# Altium schematic symbol library HW_ADHERENT_SYSCTRL_R1_L3.SchLib: 1629 symbols (part 28 of 31)
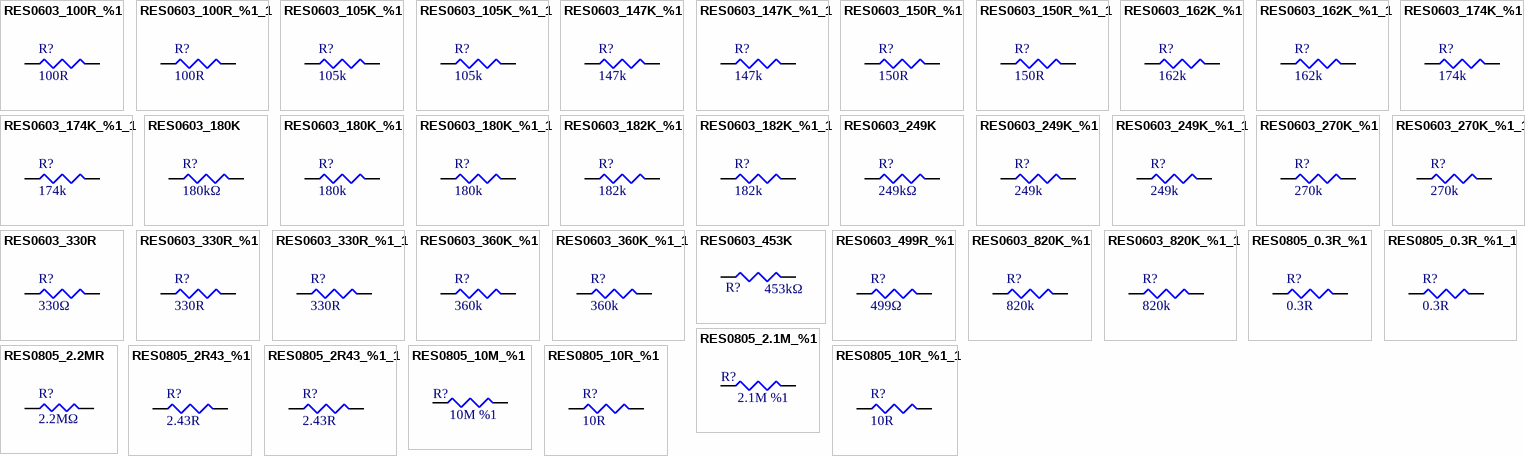
[diagram p78: symbols RES0603_100R_%1 to RES0805_10R_%1_1]

## RES0603_100R_%1
designator R?, comment value 100R  (hidden comment: RES 100 OHM 1% 1/10W 0603)
100 Ohms ±1% 0.1W, 1/10W Chip Resistor 0603 (1608 Metric) Moisture Resistant Thick Film; Manufacturer Part Number: RC0603FR-07100RL; Order Code: Digi: 311-100HRTR-ND; Sirius Stock Code: *; LCSC Part Number: C105588; LCSC Manufacturer Part Number: RC0603FR-07100RL
footprint SMR0603
pins: 1, 2

## RES0603_100R_%1_1
designator R?, comment value 100R  (hidden comment: RES 100 OHM 1% 1/10W 0603)
100 Ohms ±1% 0.1W, 1/10W Chip Resistor 0603 (1608 Metric) Moisture Resistant Thick Film; Manufacturer Part Number: RC0603FR-07100RL; Order Code: Digi: 311-100HRTR-ND; Sirius Stock Code: *; LCSC Part Number: C105588; LCSC Manufacturer Part Number: RC0603FR-07100RL
footprint SMR0603
pins: 1, 2

## RES0603_105K_%1
designator R?, comment value 105k  (hidden comment: RES 105K OHM 1% 1/10W 0603)
100mW Thick Film Resistors ±1% 105kΩ 0603 Chip Resistor - Surface Mount ROHS; Manufacturer Part Number: FRC0603F1053TS; Order Code: LCSC: C2933128; Sirius Stock Code: *; LCSC Part Number: C2933128; LCSC Manufacturer Part Number: FRC0603F1053TS
footprint SMR0603
pins: 1, 2

## RES0603_105K_%1_1
designator R?, comment value 105k  (hidden comment: RES 105K OHM 1% 1/10W 0603)
100mW Thick Film Resistors ±1% 105kΩ 0603 Chip Resistor - Surface Mount ROHS; Manufacturer Part Number: FRC0603F1053TS; Order Code: LCSC: C2933128; Sirius Stock Code: *; LCSC Part Number: C2933128; LCSC Manufacturer Part Number: FRC0603F1053TS
footprint SMR0603
pins: 1, 2

## RES0603_147K_%1
designator R?, comment value 147k  (hidden comment: RES 147K OHM 1% 1/10W 0603)
147kΩ 100mW Thick Film Resistors ±1% 0603 Chip Resistor - Surface Mount ROHS; Manufacturer Part Number: FRC0603F1473TS; Order Code: LCSC: C2998060; Sirius Stock Code: *; LCSC Part Number: C2998060; LCSC Manufacturer Part Number: FRC0603F1473TS
footprint SMR0603
pins: 1, 2

## RES0603_147K_%1_1
designator R?, comment value 147k  (hidden comment: RES 147K OHM 1% 1/10W 0603)
147kΩ 100mW Thick Film Resistors ±1% 0603 Chip Resistor - Surface Mount ROHS; Manufacturer Part Number: FRC0603F1473TS; Order Code: LCSC: C2998060; Sirius Stock Code: *; LCSC Part Number: C2998060; LCSC Manufacturer Part Number: FRC0603F1473TS
footprint SMR0603
pins: 1, 2

## RES0603_150R_%1
designator R?, comment value 150R  (hidden comment: RES 150 OHM 1% 1/10W 0603)
150 Ohms ±1% 0.1W, 1/10W Chip Resistor 0603 (1608 Metric) Moisture Resistant Thick Film; Manufacturer Part Number: RC0603FR-07150RL; Order Code: Digi: 311-150HRTR-ND; Sirius Stock Code: *; LCSC Part Number: C114608; LCSC Manufacturer Part Number: RC0603FR-07150RL
footprint SMR0603
pins: 1, 2

## RES0603_150R_%1_1
designator R?, comment value 150R  (hidden comment: RES 150 OHM 1% 1/10W 0603)
150 Ohms ±1% 0.1W, 1/10W Chip Resistor 0603 (1608 Metric) Moisture Resistant Thick Film; Manufacturer Part Number: RC0603FR-07150RL; Order Code: Digi: 311-150HRTR-ND; Sirius Stock Code: *; LCSC Part Number: C114608; LCSC Manufacturer Part Number: RC0603FR-07150RL
footprint SMR0603
pins: 1, 2

## RES0603_162K_%1
designator R?, comment value 162k  (hidden comment: RES 820K OHM 1% 1/10W 0603)
820 kOhms ±1% 0.1W, 1/10W Chip Resistor 0603 (1608 Metric) Moisture Resistant Thick Film; Manufacturer Part Number: FRC0603F1623TS; Order Code: LCSC: C2998114; Sirius Stock Code: *; LCSC Part Number: C2998114; LCSC Manufacturer Part Number: FRC0603F1623TS
footprint SMR0603
pins: 1, 2

## RES0603_162K_%1_1
designator R?, comment value 162k  (hidden comment: RES 820K OHM 1% 1/10W 0603)
820 kOhms ±1% 0.1W, 1/10W Chip Resistor 0603 (1608 Metric) Moisture Resistant Thick Film; Manufacturer Part Number: FRC0603F1623TS; Order Code: LCSC: C2998114; Sirius Stock Code: *; LCSC Part Number: C2998114; LCSC Manufacturer Part Number: FRC0603F1623TS
footprint SMR0603
pins: 1, 2

## RES0603_174K_%1
designator R?, comment value 174k  (hidden comment: RES 174K OHM 1% 1/10W 0603)
100mW Thick Film Resistors ±1% 174kΩ 0603 Chip Resistor - Surface Mount ROHS; Manufacturer Part Number: FRC0603F1743TS; Order Code: LCSC: C2933159; Sirius Stock Code: *; LCSC Part Number: C2933159; LCSC Manufacturer Part Number: FRC0603F1743TS
footprint SMR0603
pins: 1, 2

## RES0603_174K_%1_1
designator R?, comment value 174k  (hidden comment: RES 174K OHM 1% 1/10W 0603)
100mW Thick Film Resistors ±1% 174kΩ 0603 Chip Resistor - Surface Mount ROHS; Manufacturer Part Number: FRC0603F1743TS; Order Code: LCSC: C2933159; Sirius Stock Code: *; LCSC Part Number: C2933159; LCSC Manufacturer Part Number: FRC0603F1743TS
footprint SMR0603
pins: 1, 2

## RES0603_180K
designator R?, comment 180kΩ
180 kOhms ±1% 0.1W, 1/10W Chip Resistor 0603 (1608 Metric) Automotive AEC-Q200 Thick Film; Manufacturer Part Number: RMCF0603FT180K; Part Number: RC0603JR-0710KL; Manufacturer: YAGEO; Tolerance: ±5%; Category 7542B8484461Ae85: Passive Components; Category 5A00970A6D5C81C7: Uncategorized; Category 5C6A91606D4187Ad: Resistors; Category Cd01000Bfc2916C6: Single Components; Symbol 0 0: Standard; Num Pins: 2; Resistance: 330Ω; Value: 180kΩ; helpURL: https://upverter.com/upn/revision/974350d35a6c8a23/; ComponentLink2Description: Datasheet; Temperature: -55°C to +155°C; Package: 0603 (1608 metric); Supplier 2: Mouser; Price: 0.00379592162232; Supplier 1: Digi-Key; ComponentLink1URL: https://upverter.com/upn/revision/974350d35a6c8a23/; Supplier Part Number 1: 311-10KGRCT-ND; ComponentLink1Description: Upverter; ComponentLink2URL: http://www.yageo.com/documents/recent/PYu-RC_Group_51_RoHS_L_6.pdf; RoHS: TRUE; Mouser Part Number: 603-RC0603JR-0710KL; Ipc Land Pattern Name: RESC16080X45; Rated Power: 0.1W; Temperature Range High: +155°C; Octopart Part Number: 1fdcd61e8aa8c01b; Digikey Description: RES 10k Ohm ±5% 0.1W, 1/10W Chip Resistor 0603 (1608 Metric) Moisture Resistant Thick Film; Digikey Part Number: 311-10KGRCT-ND; Type: integrated circuit; Lead Free: yes; Temperature Range Low: -55°C
footprint R0603
pins: 1, 2

## RES0603_180K_%1
designator R?, comment value 180k  (hidden comment: RES 180K OHM 1% 1/10W 0603)
180 kOhms ±1% 0.1W, 1/10W Chip Resistor 0603 (1608 Metric) Moisture Resistant Thick Film; Manufacturer Part Number: RC0603FR-07180KL; Order Code: DIGI : 311-180KHRTR-ND; LCSC Manufacturer Part Number: RC0603FR-07180KL; LCSC Part Number: C123419
footprint SMR0603
pins: 1, 2

## RES0603_180K_%1_1
designator R?, comment value 180k  (hidden comment: RES 180K OHM 1% 1/10W 0603)
180 kOhms ±1% 0.1W, 1/10W Chip Resistor 0603 (1608 Metric) Moisture Resistant Thick Film; Manufacturer Part Number: RC0603FR-07180KL; Order Code: DIGI : 311-180KHRTR-ND; LCSC Manufacturer Part Number: RC0603FR-07180KL; LCSC Part Number: C123419
footprint SMR0603
pins: 1, 2

## RES0603_182K_%1
designator R?, comment value 182k  (hidden comment: RES 182K OHM 1% 1/10W 0603)
182 kOhms ±1% 0.1W, 1/10W Chip Resistor 0603 (1608 Metric) Moisture Resistant Thick Film; Manufacturer Part Number: RC0603FR-07182KL; Order Code: Digi: 311-182KHRTR-ND; Sirius Stock Code: *; LCSC Part Number: C163428; LCSC Manufacturer Part Number: RC0603FR-07182KL
footprint SMR0603
pins: 1, 2

## RES0603_182K_%1_1
designator R?, comment value 182k  (hidden comment: RES 182K OHM 1% 1/10W 0603)
182 kOhms ±1% 0.1W, 1/10W Chip Resistor 0603 (1608 Metric) Moisture Resistant Thick Film; Manufacturer Part Number: RC0603FR-07182KL; Order Code: Digi: 311-182KHRTR-ND; Sirius Stock Code: *; LCSC Part Number: C163428; LCSC Manufacturer Part Number: RC0603FR-07182KL
footprint SMR0603
pins: 1, 2

## RES0603_249K
designator R?, comment 249kΩ
249 kOhms ±1% 0.1W, 1/10W Chip Resistor 0603 (1608 Metric) Automotive AEC-Q200 Thick Film; Part Number: RC0603JR-0710KL; Manufacturer Part Number: RMCF0603FT249K; Manufacturer: YAGEO; Value: 10KΩ; Tolerance: ±5%; Category 7542B8484461Ae85: Passive Components; Category 5A00970A6D5C81C7: Uncategorized; Category 5C6A91606D4187Ad: Resistors; Category Cd01000Bfc2916C6: Single Components; Symbol 0 0: Standard; Num Pins: 2; helpURL: https://upverter.com/upn/revision/974350d35a6c8a23/; ComponentLink2Description: Datasheet; Temperature: -55°C to +155°C; Package: 0603 (1608 metric); Supplier 2: Mouser; Price: 0.00379592162232; Supplier 1: Digi-Key; ComponentLink1URL: https://upverter.com/upn/revision/974350d35a6c8a23/; Supplier Part Number 1: 311-10KGRCT-ND; ComponentLink1Description: Upverter; ComponentLink2URL: http://www.yageo.com/documents/recent/PYu-RC_Group_51_RoHS_L_6.pdf; RoHS: TRUE; Mouser Part Number: 603-RC0603JR-0710KL; Ipc Land Pattern Name: RESC16080X45; Rated Power: 0.1W; Temperature Range High: +155°C; Octopart Part Number: 1fdcd61e8aa8c01b; Digikey Description: RES 10k Ohm ±5% 0.1W, 1/10W Chip Resistor 0603 (1608 Metric) Moisture Resistant Thick Film; Digikey Part Number: 311-10KGRCT-ND; Type: integrated circuit; Lead Free: yes; Temperature Range Low: -55°C; Resistance: 10KΩ
footprint R0603
pins: 1, 2

## RES0603_249K_%1
designator R?, comment value 249k  (hidden comment: RES 249K OHM 1% 1/10W 0603)
249 kOhms ±1% 0.1W, 1/10W Chip Resistor 0603 (1608 Metric) Moisture Resistant Thick Film; Manufacturer Part Number: RC0603FR-07249KL; Order Code: Digi: 311-249KHRTR-ND; Sirius Stock Code: *; LCSC Part Number: C137763; LCSC Manufacturer Part Number: RC0603FR-07249KL
footprint SMR0603
pins: 1, 2

## RES0603_249K_%1_1
designator R?, comment value 249k  (hidden comment: RES 249K OHM 1% 1/10W 0603)
249 kOhms ±1% 0.1W, 1/10W Chip Resistor 0603 (1608 Metric) Moisture Resistant Thick Film; Manufacturer Part Number: RC0603FR-07249KL; Order Code: Digi: 311-249KHRTR-ND; Sirius Stock Code: *; LCSC Part Number: C137763; LCSC Manufacturer Part Number: RC0603FR-07249KL
footprint SMR0603
pins: 1, 2

## RES0603_270K_%1
designator R?, comment value 270k  (hidden comment: RES 270K OHM 1% 1/10W 0603)
270 kOhms ±1% 0.1W, 1/10W Chip Resistor 0603 (1608 Metric) Moisture Resistant Thick Film; Manufacturer Part Number: RC0603FR-07270KL; Order Code: Digi: 311-270KHRTR-ND; Sirius Stock Code: *; LCSC Part Number: C137755; LCSC Manufacturer Part Number: RC0603FR-07270KL
footprint SMR0603
pins: 1, 2

## RES0603_270K_%1_1
designator R?, comment value 270k  (hidden comment: RES 270K OHM 1% 1/10W 0603)
270 kOhms ±1% 0.1W, 1/10W Chip Resistor 0603 (1608 Metric) Moisture Resistant Thick Film; Manufacturer Part Number: RC0603FR-07270KL; Order Code: Digi: 311-270KHRTR-ND; Sirius Stock Code: *; LCSC Part Number: C137755; LCSC Manufacturer Part Number: RC0603FR-07270KL
footprint SMR0603
pins: 1, 2

## RES0603_330R
designator R?, comment 330Ω
330 Ohms ±1% 0.1W, 1/10W Chip Resistor 0603 (1608 Metric) Moisture Resistant Thick Film; Part Number: RC0603JR-0710KL; Manufacturer Part Number: RC0603FR-07330RL; Manufacturer: YAGEO; Tolerance: ±5%; Category 7542B8484461Ae85: Passive Components; Category 5A00970A6D5C81C7: Uncategorized; Category 5C6A91606D4187Ad: Resistors; Category Cd01000Bfc2916C6: Single Components; Symbol 0 0: Standard; Num Pins: 2; helpURL: https://upverter.com/upn/revision/974350d35a6c8a23/; ComponentLink2Description: Datasheet; Temperature: -55°C to +155°C; Package: 0603 (1608 metric); Supplier 2: Mouser; Price: 0.00379592162232; Supplier 1: Digi-Key; ComponentLink1URL: https://upverter.com/upn/revision/974350d35a6c8a23/; Supplier Part Number 1: 311-10KGRCT-ND; Value: 330Ω; ComponentLink1Description: Upverter; ComponentLink2URL: http://www.yageo.com/documents/recent/PYu-RC_Group_51_RoHS_L_6.pdf; RoHS: TRUE; Mouser Part Number: 603-RC0603JR-0710KL; Ipc Land Pattern Name: RESC16080X45; Rated Power: 0.1W; Temperature Range High: +155°C; Octopart Part Number: 1fdcd61e8aa8c01b; Digikey Description: RES 10k Ohm ±5% 0.1W, 1/10W Chip Resistor 0603 (1608 Metric) Moisture Resistant Thick Film; Digikey Part Number: 311-10KGRCT-ND; Type: integrated circuit; Lead Free: yes; Temperature Range Low: -55°C
footprint R0603
pins: 1, 2

## RES0603_330R_%1
designator R?, comment value 330R  (hidden comment: RES 330 OHM 1% 1/10W 0603)
330 Ohms ±1% 0.1W, 1/10W Chip Resistor 0603 (1608 Metric) Automotive AEC-Q200 Thick Film; Manufacturer Part Number: RMCF0603FT330R; LCSC Manufacturer Part Number: SCR0603F330R; Order Code: Digi: RMCF0603FT330RTR-ND; Sirius Stock Code: *; LCSC Part Number: C3016255
footprint RES0603 (RESISTOR 0603)
pins: 1, 2

## RES0603_330R_%1_1
designator R?, comment value 330R  (hidden comment: RES 330 OHM 1% 1/10W 0603)
330 Ohms ±1% 0.1W, 1/10W Chip Resistor 0603 (1608 Metric) Automotive AEC-Q200 Thick Film; Manufacturer Part Number: RMCF0603FT330R; LCSC Manufacturer Part Number: SCR0603F330R; Order Code: Digi: RMCF0603FT330RTR-ND; Sirius Stock Code: *; LCSC Part Number: C3016255
footprint RES0603 (RESISTOR 0603)
pins: 1, 2

## RES0603_360K_%1
designator R?, comment value 360k  (hidden comment: RES 270K OHM 1% 1/10W 0603)
360 kOhms ±1% 0.1W, 1/10W Chip Resistor 0603 (1608 Metric) Moisture Resistant Thick Film; Manufacturer Part Number: RC0603FR-07360KL; Order Code: Digi: 311-360KHRTR-ND; Sirius Stock Code: *; LCSC Part Number: C137740; LCSC Manufacturer Part Number: RC0603FR-07360KL
footprint SMR0603
pins: 1, 2

## RES0603_360K_%1_1
designator R?, comment value 360k  (hidden comment: RES 270K OHM 1% 1/10W 0603)
360 kOhms ±1% 0.1W, 1/10W Chip Resistor 0603 (1608 Metric) Moisture Resistant Thick Film; Manufacturer Part Number: RC0603FR-07360KL; Order Code: Digi: 311-360KHRTR-ND; Sirius Stock Code: *; LCSC Part Number: C137740; LCSC Manufacturer Part Number: RC0603FR-07360KL
footprint SMR0603
pins: 1, 2

## RES0603_453K
designator R?, comment 453kΩ
453 kOhms ±1% 0.1W, 1/10W Chip Resistor 0603 (1608 Metric) Moisture Resistant Thick Film; Part Number: RC0603FR-07453KL; Manufacturer Part Number: RC0603FR-07432KL; Manufacturer: YAGEO; Value: 24.9kΩ; Tolerance: ±5%; Category 7542B8484461Ae85: Passive Components; Category 5A00970A6D5C81C7: Uncategorized; Category 5C6A91606D4187Ad: Resistors; Category Cd01000Bfc2916C6: Single Components; Symbol 0 0: Standard; Num Pins: 2; helpURL: https://upverter.com/upn/revision/974350d35a6c8a23/; ComponentLink2Description: Datasheet; Temperature: -55°C to +155°C; Package: 0603 (1608 metric); Supplier 2: Mouser; Price: 0.00379592162232; Supplier 1: Digi-Key; ComponentLink1URL: https://upverter.com/upn/revision/974350d35a6c8a23/; Supplier Part Number 1: 311-10KGRCT-ND; ComponentLink1Description: Upverter; ComponentLink2URL: http://www.yageo.com/documents/recent/PYu-RC_Group_51_RoHS_L_6.pdf; RoHS: TRUE; Mouser Part Number: 603-RC0603JR-0710KL; Ipc Land Pattern Name: RESC16080X45; Rated Power: 0.1W; Temperature Range High: +155°C; Octopart Part Number: 1fdcd61e8aa8c01b; Digikey Description: RES 10k Ohm ±5% 0.1W, 1/10W Chip Resistor 0603 (1608 Metric) Moisture Resistant Thick Film; Digikey Part Number: 311-10KGRCT-ND; Type: integrated circuit; Lead Free: yes; Temperature Range Low: -55°C
footprint R0603
pins: 1, 2

## RES0603_499R_%1
designator R?, comment 499Ω
499 Ohms ±1% 0.1W, 1/10W Chip Resistor 0603 (1608 Metric) Moisture Resistant Thick Film; Manufacturer Part Number: CR0603-FX-2492ELF; Part Number: RC0603FR-07499RL; Manufacturer: YAGEO; Tolerance: ±5%; Category 7542B8484461Ae85: Passive Components; Category 5A00970A6D5C81C7: Uncategorized; Category 5C6A91606D4187Ad: Resistors; Category Cd01000Bfc2916C6: Single Components; Symbol 0 0: Standard; Num Pins: 2; Value: 499Ω; helpURL: https://upverter.com/upn/revision/974350d35a6c8a23/; ComponentLink2Description: Datasheet; Temperature: -55°C to +155°C; Package: 0603 (1608 metric); Supplier 2: Mouser; Price: 0.00379592162232; Supplier 1: Digi-Key; ComponentLink1URL: https://upverter.com/upn/revision/974350d35a6c8a23/; Supplier Part Number 1: 311-10KGRCT-ND; ComponentLink1Description: Upverter; ComponentLink2URL: http://www.yageo.com/documents/recent/PYu-RC_Group_51_RoHS_L_6.pdf; RoHS: TRUE; Mouser Part Number: 603-RC0603JR-0710KL; Ipc Land Pattern Name: RESC16080X45; Rated Power: 0.1W; Temperature Range High: +155°C; Octopart Part Number: 1fdcd61e8aa8c01b; Digikey Description: RES 10k Ohm ±5% 0.1W, 1/10W Chip Resistor 0603 (1608 Metric) Moisture Resistant Thick Film; Digikey Part Number: 311-10KGRCT-ND; Type: integrated circuit; Lead Free: yes; Temperature Range Low: -55°C
footprint R0603
pins: 1, 2

## RES0603_820K_%1
designator R?, comment value 820k  (hidden comment: RES 820K OHM 1% 1/10W 0603)
820 kOhms ±1% 0.1W, 1/10W Chip Resistor 0603 (1608 Metric) Moisture Resistant Thick Film; Manufacturer Part Number: RC0603FR-07820KL; Order Code: Digi: 311-820KHRTR-ND; Sirius Stock Code: *; LCSC Part Number: C141684; LCSC Manufacturer Part Number: RC0603FR-07820KL
footprint SMR0603
pins: 1, 2

## RES0603_820K_%1_1
designator R?, comment value 820k  (hidden comment: RES 820K OHM 1% 1/10W 0603)
820 kOhms ±1% 0.1W, 1/10W Chip Resistor 0603 (1608 Metric) Moisture Resistant Thick Film; Manufacturer Part Number: RC0603FR-07820KL; Order Code: Digi: 311-820KHRTR-ND; Sirius Stock Code: *; LCSC Part Number: C141684; LCSC Manufacturer Part Number: RC0603FR-07820KL
footprint SMR0603
pins: 1, 2

## RES0805_0.3R_%1
designator R?, comment value 0.3R  (hidden comment: 125mW Thick Film Resistors ±1% 300mΩ 0805 Chip Resistor - Surface Mount ROHS)
Manufacturer Part Number: 0805W8F300LT5E; Order Code: LCSC: C247157; LCSC Manufacturer Part Number: 0805W8F300LT5E; LCSC Part Number: C247157
footprint SMR0805
pins: 1, 2

## RES0805_0.3R_%1_1
designator R?, comment value 0.3R  (hidden comment: 125mW Thick Film Resistors ±1% 300mΩ 0805 Chip Resistor - Surface Mount ROHS)
Manufacturer Part Number: 0805W8F300LT5E; Order Code: LCSC: C247157; LCSC Manufacturer Part Number: 0805W8F300LT5E; LCSC Part Number: C247157
footprint SMR0805
pins: 1, 2

## RES0805_2.1M_%1
designator R?, comment value 2.1M %1  (hidden comment: RES SMD 2.1M OHM 1% 1/8W 0805)
2.1 MOhms ±1% 0.125W, 1/8W Chip Resistor 0805 (2012 Metric) Automotive AEC-Q200 Thick Film; Manufacturer Part Number: CRCW08052M10FKEA; Order Code: DIGI: 541-2.10MCTR-ND
footprint SMR0805
pins: 1, 2

## RES0805_2.2MR
designator R?, comment 2.2MΩ
2.2 MOhms ±0.1% 0.125W, 1/8W Chip Resistor 0805 (2012 Metric) Anti-Sulfur, Automotive AEC-Q200 Thin Film; Manufacturer_Name: Susumu; Manufacturer_Part_Number: RG2012P-225-B-T5; Datasheet Link: https://4donline.ihs.com/images/VipMasterIC/IC/YAGO/YAGO-S-A0010774850/YAGO-S-A0010774850-1.pdf?hkey=6D3A4C79FDBF58556ACFDE234799DDF0; Height: 0.6mm; LCSC Part Number: C114572
footprint RES0805
pins: 1, 2

## RES0805_2R43_%1
designator R?, comment value 2.43R  (hidden comment: 125mW Thick Film Resistors ±1% 2.43Ω 0805 Chip Resistor - Surface Mount ROHS)
Manufacturer Part Number: FRC0805F2R43TS; Order Code: LCSC: C2933405; LCSC Manufacturer Part Number: FRC0805F2R43TS; LCSC Part Number: C2933405
footprint SMR0805
pins: 1, 2

## RES0805_2R43_%1_1
designator R?, comment value 2.43R  (hidden comment: 125mW Thick Film Resistors ±1% 2.43Ω 0805 Chip Resistor - Surface Mount ROHS)
Manufacturer Part Number: FRC0805F2R43TS; Order Code: LCSC: C2933405; LCSC Manufacturer Part Number: FRC0805F2R43TS; LCSC Part Number: C2933405
footprint SMR0805
pins: 1, 2

## RES0805_10M_%1
designator R?, comment value 10M %1  (hidden comment: RES SMD 10M OHM 1% 1/8W 0805)
10 MOhms ±1% 0.125W, 1/8W Chip Resistor 0805 (2012 Metric) Automotive AEC-Q200 Thick Film; Manufacturer Part Number: CRCW080510M0FKEB; Order Code: DIGI: 541-CRCW080510M0FKEBTR-ND
footprint SMR0805
pins: 1, 2

## RES0805_10R_%1
designator R?, comment value 10R  (hidden comment: 125mW Thick Film Resistors ±1% 10Ω 0805 Chip Resistor - Surface Mount ROHS)
Manufacturer Part Number: 0805W8F100JT5E; Order Code: LCSC: C17415; LCSC Manufacturer Part Number: 0805W8F100JT5E; LCSC Part Number: C17415
footprint SMR0805
pins: 1, 2

## RES0805_10R_%1_1
designator R?, comment value 10R  (hidden comment: 125mW Thick Film Resistors ±1% 10Ω 0805 Chip Resistor - Surface Mount ROHS)
Manufacturer Part Number: 0805W8F100JT5E; Order Code: LCSC: C17415; LCSC Manufacturer Part Number: 0805W8F100JT5E; LCSC Part Number: C17415
footprint SMR0805
pins: 1, 2

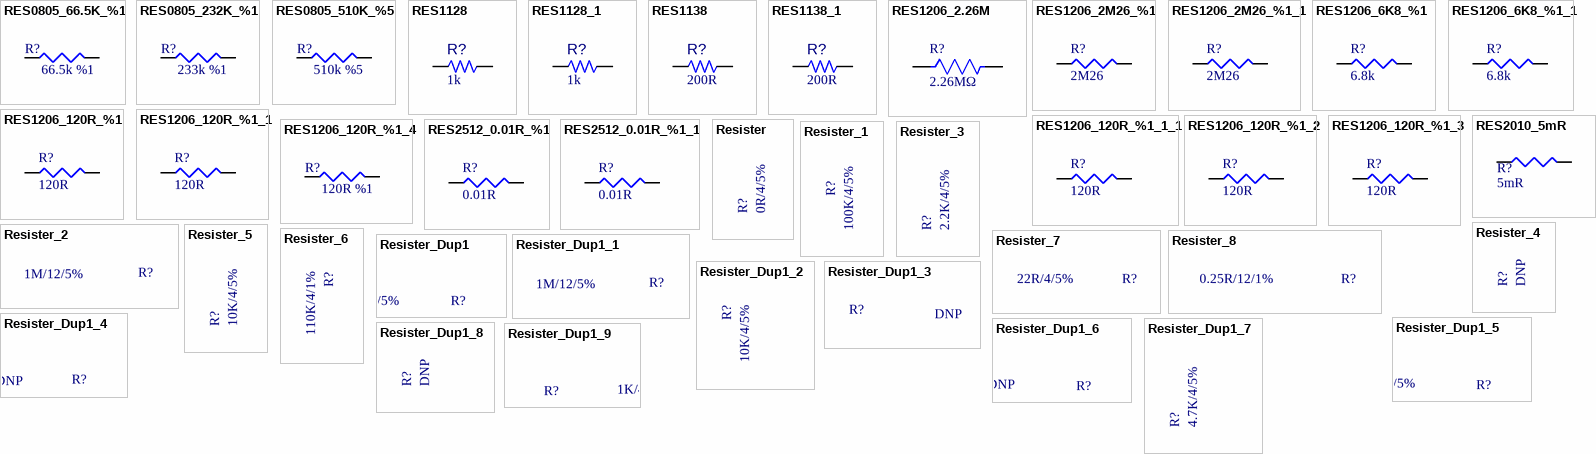
[diagram p40: symbols RES0805_66.5K_%1 to Resister_Dup1_9]

## RES0805_66.5K_%1
designator R?, comment value 66.5k %1  (hidden comment: RES SMD 66.5K OHM 1% 1/8W 0805)
66.5 kOhms ±1% 0.125W, 1/8W Chip Resistor 0805 (2012 Metric) Automotive AEC-Q200 Thick Film; Manufacturer Part Number: CRCW080566K5FKEA; Order Code: DIGI: 541-66.5KCTR-ND
footprint SMR0805
pins: 1, 2

## RES0805_232K_%1
designator R?, comment value 233k %1  (hidden comment: RES SMD 232K OHM 1% 1/8W 0805)
232 kOhms ±1% 0.125W, 1/8W Chip Resistor 0805 (2012 Metric) Automotive AEC-Q200 Thick Film; Manufacturer Part Number: CRCW0805232KFKEA; Order Code: DIGI: 541-232KCTR-ND
footprint SMR0805
pins: 1, 2

## RES0805_510K_%5
designator R?, comment value 510k %5  (hidden comment: RES SMD 510K OHM 5% 1/8W 0805)
510 kOhms ±5% 0.125W, 1/8W Chip Resistor 0805 (2012 Metric) Automotive AEC-Q200 Thick Film; Manufacturer Part Number: CRCW0805510KJNEA; Order Code: DIGI: 541-510KATR-ND
footprint SMR0805
pins: 1, 2

## RES1128
designator R?, comment 1k
RES 1K OHM 1% 1/16W 0402; Manufacturer: Yageo; Manufacturer Part Number: RC0402FR-071KL; Voltage: 75V; Value: 1k; Revision: 0; Supplier Part Number: 311-1.00KLRCT-ND
footprint 0402_R (MODIFIED BY DN_MH - 16JAN17;CHECKED BY DN_TN - 18JAN17;CHECKED BY DN_QN - 20FEB19)
pins: 1, 2

## RES1128_1
designator R?, comment 1k
RES 1K OHM 1% 1/16W 0402; Manufacturer: Yageo; Manufacturer Part Number: RC0402FR-071KL; Voltage: 75V; Value: 1k; Revision: 0; Supplier Part Number: 311-1.00KLRCT-ND
footprint 0402_R (MODIFIED BY DN_MH - 16JAN17;CHECKED BY DN_TN - 18JAN17;CHECKED BY DN_QN - 20FEB19)
pins: 1, 2

## RES1138
designator R?, comment 200R
RES 200 OHM 1% 1/16W 0402; Manufacturer: Yageo; Manufacturer Part Number: RC0402FR-07200RL; Voltage: 75V; Value: 200R; Revision: 0; Supplier Part Number: 311-200LRCT-ND
footprint 0402_R (MODIFIED BY DN_MH - 16JAN17;CHECKED BY DN_TN - 18JAN17;CHECKED BY DN_QN - 20FEB19)
pins: 1, 2

## RES1138_1
designator R?, comment 200R
RES 200 OHM 1% 1/16W 0402; Manufacturer: Yageo; Manufacturer Part Number: RC0402FR-07200RL; Voltage: 75V; Value: 200R; Revision: 0; Supplier Part Number: 311-200LRCT-ND
footprint 0402_R (MODIFIED BY DN_MH - 16JAN17;CHECKED BY DN_TN - 18JAN17;CHECKED BY DN_QN - 20FEB19)
pins: 1, 2

## RES1206_2.26M
designator R?, comment 2.26MΩ
2.26 MOhms ±1% 0.25W, 1/4W Chip Resistor 1206 (3216 Metric) Moisture Resistant Thick Film; Manufacturer Part Number: RC1206FR-072M26L; Manufacturer: YAGEO; Value: 2.26MΩ
footprint RES1206
pins: 1, 2

## RES1206_2M26_%1
designator R?, comment value 2M26  (hidden comment: RES 2.26M OHM 1% 1/4W 1206)
2.26 MOhms ±1% 0.25W, 1/4W Chip Resistor 1206 (3216 Metric) Moisture Resistant Thick Film; Manufacturer Part Number: RC1206FR-072M26L; Order Code: Digi: 311-2.26MFRTR-ND; LCSC Part Number: C488699; LCSC Manufacturer Part Number: RC1206FR-072M26L
footprint RES1206 (RESISTOR 1206)
pins: 1, 2

## RES1206_2M26_%1_1
designator R?, comment value 2M26  (hidden comment: RES 2.26M OHM 1% 1/4W 1206)
2.26 MOhms ±1% 0.25W, 1/4W Chip Resistor 1206 (3216 Metric) Moisture Resistant Thick Film; Manufacturer Part Number: RC1206FR-072M26L; Order Code: Digi: 311-2.26MFRTR-ND; LCSC Part Number: C488699; LCSC Manufacturer Part Number: RC1206FR-072M26L
footprint RES1206 (RESISTOR 1206)
pins: 1, 2

## RES1206_6K8_%1
designator R?, comment value 6.8k  (hidden comment: RES 6.8K OHM 1% 1/4W 1206)
6.8 kOhms ±1% 0.25W, 1/4W Chip Resistor 1206 (3216 Metric) Moisture Resistant Thick Film; Manufacturer Part Number: RC1206FR-076K8L; Order Code: Digi: 311-6.80KFRTR-ND; Sirius Stock Code: *; LCSC Manufacturer Part Number: RC1206FR-076K8L; LCSC Part Number: C246053
footprint SMR1206
footprint RES1206
pins: 1, 2

## RES1206_6K8_%1_1
designator R?, comment value 6.8k  (hidden comment: RES 6.8K OHM 1% 1/4W 1206)
6.8 kOhms ±1% 0.25W, 1/4W Chip Resistor 1206 (3216 Metric) Moisture Resistant Thick Film; Manufacturer Part Number: RC1206FR-076K8L; Order Code: Digi: 311-6.80KFRTR-ND; Sirius Stock Code: *; LCSC Manufacturer Part Number: RC1206FR-076K8L; LCSC Part Number: C246053
footprint SMR1206
footprint RES1206
pins: 1, 2

## RES1206_120R_%1
designator R?, comment value 120R  (hidden comment: RES SMD 120 OHM 1% 1/4W 1206)
120 Ohms ±1% 0.25W, 1/4W Chip Resistor 1206 (3216 Metric) Automotive AEC-Q200, Moisture Resistant Thick Film; Manufacturer Part Number: AC1206FR-07120RL; Order Code: Digi: YAG3810TR-ND; Sirius Stock Code: *; LCSC Manufacturer Part Number: AC1206FR-07120RL; LCSC Part Number: C229293
footprint SMR1206
footprint RES1206
pins: 1, 2

## RES1206_120R_%1_1
designator R?, comment value 120R  (hidden comment: RES SMD 120 OHM 1% 1/4W 1206)
120 Ohms ±1% 0.25W, 1/4W Chip Resistor 1206 (3216 Metric) Automotive AEC-Q200, Moisture Resistant Thick Film; Manufacturer Part Number: AC1206FR-07120RL; Order Code: Digi: YAG3810TR-ND; Sirius Stock Code: *; LCSC Manufacturer Part Number: AC1206FR-07120RL; LCSC Part Number: C229293
footprint RES1206
pins: 1, 2

## RES1206_120R_%1_1_1
designator R?, comment value 120R  (hidden comment: RES SMD 120 OHM 1% 1/4W 1206)
120 Ohms ±1% 0.25W, 1/4W Chip Resistor 1206 (3216 Metric) Automotive AEC-Q200, Moisture Resistant Thick Film; Manufacturer Part Number: AC1206FR-07120RL; Order Code: Digi: YAG3810TR-ND; Sirius Stock Code: *; LCSC Manufacturer Part Number: AC1206FR-07120RL; LCSC Part Number: C229293
footprint RES1206
pins: 1, 2

## RES1206_120R_%1_2
designator R?, comment value 120R  (hidden comment: RES SMD 120 OHM 1% 1/4W 1206)
120 Ohms ±1% 0.25W, 1/4W Chip Resistor 1206 (3216 Metric) Automotive AEC-Q200, Moisture Resistant Thick Film; Manufacturer Part Number: AC1206FR-07120RL; Order Code: Digi: YAG3810TR-ND; Sirius Stock Code: *; LCSC Manufacturer Part Number: AC1206FR-07120RL; LCSC Part Number: C229293
footprint SMR1206
footprint RES1206
pins: 1, 2

## RES1206_120R_%1_3
designator R?, comment value 120R  (hidden comment: RES SMD 120 OHM 1% 1/2W 1206)
120 Ohms ±1% 0.5W, 1/2W Chip Resistor 1206 (3216 Metric) Thick Film; Manufacturer Part Number: CRGH1206F120R; Order Code: Digi: A129547TR-ND; Sirius Stock Code: *
footprint RES1206
pins: 1, 2

## RES1206_120R_%1_4
designator R?, comment value 120R %1  (hidden comment: RES SMD 120 OHM 1% 1/4W 1206)
120 Ohms ±1% 0.25W, 1/4W Chip Resistor 1206 (3216 Metric) Automotive AEC-Q200 Thick Film; Manufacturer Part Number: CRCW1206120RFKTA; Order Code: DIGI: 541-CRCW1206120RFKTATR-ND
footprint SMR1206
pins: 1, 2

## RES2010_5mR
designator R?, comment 5mR
5 mOhms ±1% 2W Chip Resistor 2010 (5025 Metric) Anti-Sulfur, Automotive AEC-Q200, Current Sense, Moisture Resistant, Pulse Withstanding Metal Element; P/N: WSLP20105L000FEA; Order Code: DIGI : 541-10107-1-ND; Value: 5mR 2W
footprint RES2010
pins: 1, 2

## RES2512_0.01R_%1
designator R?, comment value 0.01R  (hidden comment: RES 0.01 OHM 1% 2W 2512)
10 mOhms ±1% 2W Chip Resistor 2512 (6432 Metric) Automotive AEC-Q200, Current Sense, Moisture Resistant Metal Foil; Manufacturer Part Number: PE2512FKE7W0R01L; Order Code: Digi: YAG2167TR-ND; Sirius Stock Code: *; LCSC Part Number: C875720; LCSC Manufacturer Part Number: PE2512FKE7W0R01L
footprint Bourns_CRE2512-R005-R009_MFG
pins: 1, 2

## RES2512_0.01R_%1_1
designator R?, comment value 0.01R  (hidden comment: RES 0.01 OHM 1% 2W 2512)
10 mOhms ±1% 2W Chip Resistor 2512 (6432 Metric) Automotive AEC-Q200, Current Sense, Moisture Resistant Metal Foil; Manufacturer Part Number: PE2512FKE7W0R01L; Order Code: Digi: YAG2167TR-ND; Sirius Stock Code: *; LCSC Part Number: C875720; LCSC Manufacturer Part Number: PE2512FKE7W0R01L
footprint Bourns_CRE2512-R005-R009_MFG
pins: 1, 2

## Resister
designator R?, comment 0R/4/5%
Thick Film Resistor,0R,+/-5%,1/16W,-55¡æ~155¡æ,SMD,0402,Fenghua; Manufacturer P/N: RC-02000JT; PCB Footprint: R0402; Myir P/N: 20301.00186; Datasheet: FHsheet_2018-07-30.PDF; Reserve Value: 0R; Manufacturer: Fenghua; Part Type: Thick Film Resistor
footprint R0402

## Resister_1
designator R?, comment 100K/4/5%
Thick Film Resistor,100K,+/-5%,,1/16W,-55¡ãC ~ 155¡ãC,SMD,0402,Fenghua; Manufacturer P/N: RC-02W104JT; PCB Footprint: R0402; Myir P/N: 20301.00210; Part Type: Thick Film Resistor; Manufacturer: Fenghua; Reserve Value: 100K; Datasheet: FHsheet_2018-07-30.PDF
footprint R0402

## Resister_2
designator R?, comment 1M/12/5%
Thick Film Resistor,1M,+/-5%,1/4W,-55¡ãC ~ 155¡ãC,SMD,1206,Fenghua; Manufacturer P/N: RS-06K105JT; PCB Footprint: R1206; Myir P/N: 20301.00226; Datasheet: FHsheet_2018-07-30.PDF; Reserve Value: 1M; Manufacturer: Fenghua; Part Type: Thick Film Resistor
footprint R1206

## Resister_3
designator R?, comment 2.2K/4/5%
Thick Film Resistor,2.2K,+/-5%,1/16W,-55¡æ~155¡æ,SMD,0402,Fenghua; Manufacturer P/N: RC-02W222JT; Myir P/N: 20301.00195; PCB Footprint: R0402; Datasheet: FHsheet_2018-07-30.PDF; Reserve Value: 2.2K; Manufacturer: Fenghua; Part Type: Thick Film Resistor
footprint R0402

## Resister_4
designator R?, comment DNP
Thick Film Resistor,10K,+/-5%,1/16W,-55¡ãC ~ 155¡ãC,SMD,0402,Fenghua; Manufacturer P/N: RC-02W103JT; Myir P/N: 20301.00199; PCB Footprint: R0402; Datasheet: FHsheet_2018-07-30.PDF; Reserve Value: 10K; Manufacturer: Fenghua; Part Type: Thick Film Resistor
footprint R0402

## Resister_5
designator R?, comment 10K/4/5%
Thick Film Resistor,10K,+/-5%,1/16W,-55¡ãC ~ 155¡ãC,SMD,0402,Fenghua; Manufacturer P/N: RC-02W103JT; Myir P/N: 20301.00199; PCB Footprint: R0402; Datasheet: FHsheet_2018-07-30.PDF; Reserve Value: 10K; Manufacturer: Fenghua; Part Type: Thick Film Resistor
footprint R0402

## Resister_6
designator R?, comment 110K/4/1%
Thick Film Resistor,110K,1%,1/16W ,-55 ¡ãC ~155¡ãC ,0402,Fenghua; Manufacturer P/N: RC-02W1103FT; Myir P/N: 20301.00280; PCB Footprint: R0402; Datasheet: FHsheet_2018-07-30.PDF; Reserve Value: 110K; Manufacturer: Fenghua; Part Type: Thick Film Resistor
footprint R0402

## Resister_7
designator R?, comment 22R/4/5%
Thick Film Resistor,22R,+/-5%,1/16W,-55¡ãC ~ 155¡ãC,SMD,0402,Fenghua; Manufacturer P/N: RC-02W220JT; PCB Footprint: R0402; Myir P/N: 20301.00187; Part Type: Thick Film Resistor; Manufacturer: Fenghua; Reserve Value: 22R; Datasheet: FH¹æ¸ñÊé_2018-07-30.pdf
footprint R0402

## Resister_8
designator R?, comment 0.25R/12/1%
Thick Film Resistor,0.25R,+/-1%,1/4W,-55¡ãC ~ 155¡ãC,SMD,1206,Fenghua; Manufacturer P/N: RS-06MR250FT; Myir P/N: 20301.80403; PCB Footprint: R1206; Part Type: Thick Film Resistor; Manufacturer: Fenghua; Reserve Value: 0.25R; Datasheet: FHsheet_2018-07-30.PDF
footprint R1206

## Resister_Dup1
designator R?, comment 100K/4/5%
Thick Film Resistor,100K,+/-5%,,1/16W,-55¡ãC ~ 155¡ãC,SMD,0402,Fenghua; Manufacturer P/N: RC-02W104JT; Myir P/N: 20301.00210; PCB Footprint: R0402; Datasheet: FHsheet_2018-07-30.PDF; Reserve Value: 100K; Manufacturer: Fenghua; Part Type: Thick Film Resistor
footprint R0402

## Resister_Dup1_1
designator R?, comment 1M/12/5%
Thick Film Resistor,1M,+/-5%,1/4W,-55¡ãC ~ 155¡ãC,SMD,1206,Fenghua; Manufacturer P/N: RS-06K105JT; Myir P/N: 20301.00226; PCB Footprint: R1206; Part Type: Thick Film Resistor; Manufacturer: Fenghua; Reserve Value: 1M; Datasheet: FH¹æ¸ñÊé_2018-07-30.pdf
footprint R1206

## Resister_Dup1_2
designator R?, comment 10K/4/5%
Thick Film Resistor,10K,+/-5%,1/16W,-55¡ãC ~ 155¡ãC,SMD,0402,Fenghua; Manufacturer P/N: RC-02W103JT; Myir P/N: 20301.00199; PCB Footprint: R0402; Datasheet: FH¹æ¸ñÊé_2018-07-30.pdf; Reserve Value: 10K; Manufacturer: Fenghua; Part Type: Thick Film Resistor
footprint R0402

## Resister_Dup1_3
designator R?, comment DNP
Thick Film Resistor,10K,+/-5%,1/16W,-55¡ãC ~ 155¡ãC,SMD,0402,Fenghua; Manufacturer P/N: RC-02W103JT; Myir P/N: 20301.00199; PCB Footprint: R0402; Datasheet: FH¹æ¸ñÊé_2018-07-30.pdf; Reserve Value: 10K; Manufacturer: Fenghua; Part Type: Thick Film Resistor
footprint R0402

## Resister_Dup1_4
designator R?, comment DNP
Thick Film Resistor,1.5K,+/-5%,1/16W,-55¡ãC ~ 155¡ãC,SMD,0402,Fenghua; Manufacturer P/N: RC-02W152JT; Myir P/N: 20301.00194; PCB Footprint: R0402; Datasheet: FH¹æ¸ñÊé_2018-07-30.pdf; Reserve Value: 1.5K; Manufacturer: Fenghua; Part Type: Thick Film Resistor
footprint R0402

## Resister_Dup1_5
designator R?, comment 0R/4/5%
Thick Film Resistor,0R,+/-5%,1/16W,-55¡æ~155¡æ,SMD,0402,Fenghua; Manufacturer P/N: RC-02000JT; Myir P/N: 20301.00186; PCB Footprint: R0402; Part Type: Thick Film Resistor; Manufacturer: Fenghua; Reserve Value: 0R; Datasheet: FHsheet_2018-07-30.PDF
footprint R0402

## Resister_Dup1_6
designator R?, comment DNP
Thick Film Resistor,0R,+/-5%,1/16W,-55¡ãC ~ 155¡ãC,SMD,0402,Fenghua; Manufacturer P/N: RC-02000JT; PCB Footprint: R0402; Myir P/N: 20301.00186; Datasheet: FH¹æ¸ñÊé_2018-07-30.pdf; Reserve Value: 0R; Manufacturer: Fenghua; Part Type: Thick Film Resistor
footprint R0402

## Resister_Dup1_7
designator R?, comment 4.7K/4/5%
Thick Film Resistor,4.7K,+/-5%,1/16W,-55¡ãC ~ 155¡ãC,SMD,0402,Fenghua; Manufacturer P/N: RC-02W472JT; Myir P/N: 20301.80393; PCB Footprint: R0402; Datasheet: FH¹æ¸ñÊé_2018-07-30.pdf; Reserve Value: 4.7K; Manufacturer: Fenghua; Part Type: Thick Film Resistor
footprint R0402

## Resister_Dup1_8
designator R?, comment DNP
Thick Film Resistor,4.7K,+/-5%,1/16W,-55¡ãC ~ 155¡ãC,SMD,0402,Fenghua; Manufacturer P/N: RC-02W472JT; Myir P/N: 20301.80393; PCB Footprint: R0402; Part Type: Thick Film Resistor; Manufacturer: Fenghua; Reserve Value: 4.7K; Datasheet: FH¹æ¸ñÊé_2018-07-30.pdf
footprint R0402

## Resister_Dup1_9
designator R?, comment 1K/4/5%
Thick Film Resistor,1K,+/-5%,1/16W,-55¡ãC ~ 155¡ãC,SMD,0402,Fenghua; Manufacturer P/N: RC-02W102JT; Myir P/N: 20301.80389; PCB Footprint: R0402; Part Type: Thick Film Resistor; Manufacturer: Fenghua; Reserve Value: 1K; Datasheet: FH¹æ¸ñÊé_2018-07-30.pdf
footprint R0402

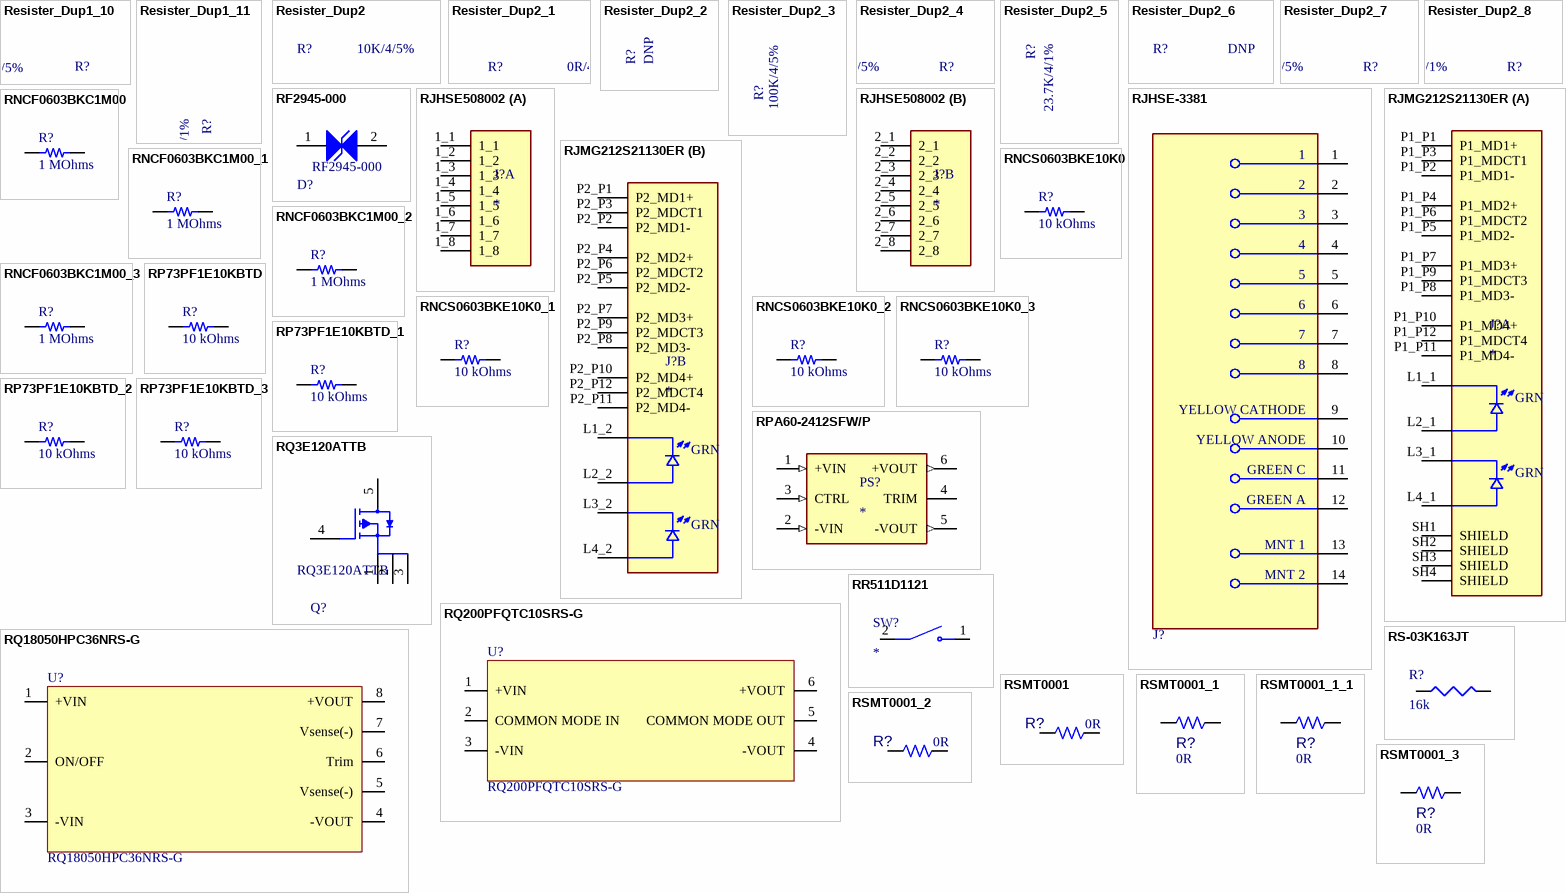
[diagram p41: symbols Resister_Dup1_10 to RSMT0001_3]

## Resister_Dup1_10
designator R?, comment 1.5K/4/5%
Thick Film Resistor,1.5K,+/-5%,1/16W,-55¡ãC ~ 155¡ãC,SMD,0402,Fenghua; Manufacturer P/N: RC-02W152JT; Myir P/N: 20301.00194; PCB Footprint: R0402; Part Type: Thick Film Resistor; Manufacturer: Fenghua; Reserve Value: 1.5K; Datasheet: FH¹æ¸ñÊé_2018-07-30.pdf
footprint R0402

## Resister_Dup1_11
designator R?, comment 2.49K/4/1%
Thick Film Resistor,2.49K,+/- 1%,1/16W,-55¡ãC ~ 155¡ãC,SMD,0402,Fenghua; Manufacturer P/N: RC-02W2491FT; Myir P/N: 20301.00249; PCB Footprint: R0402; Datasheet: FH¹æ¸ñÊé_2018-07-30.pdf; Reserve Value: 2.49K; Manufacturer: Fenghua; Part Type: Thick Film Resistor
footprint R0402

## Resister_Dup2
designator R?, comment 10K/4/5%
Thick Film Resistor,10K,+/-5%,1/16W,-55¡ãC ~ 155¡ãC,SMD,0402,Fenghua; Manufacturer P/N: RC-02W103JT; Myir P/N: 20301.00199; PCB Footprint: R0402; Datasheet: FH¹æ¸ñÊé_2018-07-30.pdf; Reserve Value: 10K; Manufacturer: Fenghua; Part Type: Thick Film Resistor
footprint R0402

## Resister_Dup2_1
designator R?, comment 0R/4/5%
Thick Film Resistor,0R,+/-5%,1/16W,-55¡æ~155¡æ,SMD,0402,Fenghua; Manufacturer P/N: RC-02000JT; Myir P/N: 20301.00186; PCB Footprint: R0402; Part Type: Thick Film Resistor; Manufacturer: Fenghua; Reserve Value: 0R; Datasheet: FHsheet_2018-07-30.PDF
footprint R0402

## Resister_Dup2_2
designator R?, comment DNP
Thick Film Resistor,10K,+/-5%,1/16W,SMD,0402,UR; Manufacturer P/N: 0402WGJ0103TCE; Myir P/N: 2030180215; PCB Footprint: R0402; Part Type: Thick Film Resistor; Manufacturer: UR; Reserve Value: 10K; Datasheet: ºñÉù¹æ¸ñÊé (1).pdf
footprint R0402

## Resister_Dup2_3
designator R?, comment 100K/4/5%
Thick Film Resistor,100K,+/-5%,,1/16W,-55¡ãC ~ 155¡ãC,SMD,0402,Fenghua; Manufacturer P/N: RC-02W104JT; Myir P/N: 20301.00210; PCB Footprint: R0402; Part Type: Thick Film Resistor; Manufacturer: Fenghua; Reserve Value: 100K; Datasheet: FH¹æ¸ñÊé_2018-07-30.pdf
footprint R0402

## Resister_Dup2_4
designator R?, comment 1K/4/5%
Thick Film Resistor,1K,+/-5%,1/16W,-55¡ãC ~ 155¡ãC,SMD,0402,Fenghua; Manufacturer P/N: RC-02W102JT; Myir P/N: 20301.80389; PCB Footprint: R0402; Datasheet: FH¹æ¸ñÊé_2018-07-30.pdf; Reserve Value: 1K; Manufacturer: Fenghua; Part Type: Thick Film Resistor
footprint R0402

## Resister_Dup2_5
designator R?, comment 23.7K/4/1%
Thick Film Resistor,23.7K,+/-1%,1/16W,-55¡ãC ~ 155¡ãC,SMD,0402,Fenghua; Manufacturer P/N: RC-02W2372FT; Myir P/N: 20301.00202; PCB Footprint: R0402; Part Type: Thick Film Resistor; Manufacturer: Fenghua; Reserve Value: 23.7K; Datasheet: FH¹æ¸ñÊé_2018-07-30.pdf
footprint R0402

## Resister_Dup2_6
designator R?, comment DNP
Thick Film Resistor,10K,+/-5%,1/16W,-55¡ãC ~ 155¡ãC,SMD,0402,Fenghua; Manufacturer P/N: RC-02W103JT; PCB Footprint: R0402; Myir P/N: 20301.00199; Part Type: Thick Film Resistor; Manufacturer: Fenghua; Reserve Value: 10K; Datasheet: FH¹æ¸ñÊé_2018-07-30.pdf
footprint R0402

## Resister_Dup2_7
designator R?, comment 4.7K/4/5%
Thick Film Resistor,4.7K,+/-5%,1/16W,-55¡ãC ~ 155¡ãC,SMD,0402,Fenghua; Manufacturer P/N: RC-02W472JT; PCB Footprint: R0402; Myir P/N: 20301.80393; Datasheet: FHsheet_2018-07-30.PDF; Reserve Value: 4.7K; Manufacturer: Fenghua; Part Type: Thick Film Resistor
footprint R0402

## Resister_Dup2_8
designator R?, comment 4.99k/4/1%
Thick Film Resistor,4.99K,+/-1%,,1/16W,-55¡ãC ~ 155¡ãC,,SMD,0402,Fenghua; Manufacturer P/N: RC-02W4991FT; PCB Footprint: R0402; Myir P/N: 20301.80442; Datasheet: FHsheet_2018-07-30.PDF; Reserve Value: 4.99K; Manufacturer: Fenghua; Part Type: Thick Film Resistor
footprint R0402

## RF2945-000
designator D?, comment value RF2945-000  (hidden comment: TVS DIODE 7VWM 10VC 0402)
10V (Typ) Clamp 2A (8/20µs) Ipp Tvs Diode Surface Mount 0402; Manufacturer Part Number: SESD0402X1BN-0010-098; Order Code: DIGI: SESD0402X1BN-0010-098TR-ND
footprint Littelfuse_SESD0402_MFG
pins: 1, 2

## RJHSE508002
designator J?
RJ45, RA, No Shield, 2 Port | Amphenol Commercial (Amphenol CS) RJHSE508002; MF: AMPHENOL ICC / FCI; SnapEDA_Link: https://www.snapeda.com/parts/RJHSE508002/Amphenol/view-part/?ref=snap; Package: None; Value: *; MP: RJHSE508002; Check_prices: https://www.snapeda.com/parts/RJHSE508002/Amphenol/view-part/?ref=eda
footprint AMPHENOL_RJHSE508002
part A pins: 1_1, 1_2, 1_3, 1_4, 1_5, 1_6, 1_7, 1_8
part B pins: 2_1, 2_2, 2_3, 2_4, 2_5, 2_6, 2_7, 2_8

## RJHSE-3381
designator J?  (value not drawn)
Jack Modular Connector 8p8c (RJ45, Ethernet) Vertical Shielded; Manufacturer: Amphenol ICC (Commercial Products); Manufacturer Part Number: RJHSE-3381
footprint Amphenol_0_MFG
pins: 1, 2, 3, 4, 5, 6, 7, 8, 9 YELLOW CATHODE, 10 YELLOW ANODE, 11 GREEN C, 12 GREEN A, 13 MNT 1, 14 MNT 2

## RJMG212S21130ER
designator J?
MF: Amphenol ICC (Commercial Products); MP: RJMG212S21130ER; Package: None; Price: None; Value: *; Availability: Unavailable
footprint AMPHENOL_RJMG212S21130ER
part A pins: L1_1, L2_1, L3_1, L4_1, P1_P1 P1_MD1+, P1_P2 P1_MD1-, P1_P3 P1_MDCT1, P1_P4 P1_MD2+, P1_P5 P1_MD2-, P1_P6 P1_MDCT2, P1_P7 P1_MD3+, P1_P8 P1_MD3-, P1_P9 P1_MDCT3, P1_P10 P1_MD4+, P1_P11 P1_MD4-, P1_P12 P1_MDCT4, SH1 SHIELD, SH2 SHIELD, SH3 SHIELD, SH4 SHIELD
part B pins: L1_2, L2_2, L3_2, L4_2, P2_P1 P2_MD1+, P2_P2 P2_MD1-, P2_P3 P2_MDCT1, P2_P4 P2_MD2+, P2_P5 P2_MD2-, P2_P6 P2_MDCT2, P2_P7 P2_MD3+, P2_P8 P2_MD3-, P2_P9 P2_MDCT3, P2_P10 P2_MD4+, P2_P11 P2_MD4-, P2_P12 P2_MDCT4
part A text: GRN
part B text: GRN

## RNCF0603BKC1M00
designator R?, comment 1 MOhms
RES SMD 1M OHM 0.1% 1/10W 0603; Part Number: RNCF0603BKC1M00; Manufacturer: Stackpole Electronics Inc; Power (Watts): 0.1W, 1/10W; Temperature Coefficient: ±50ppm/°C; Value: 1 MOhms; ComponentLink1Description: Datasheet; ComponentLink1URL: https://www.seielect.com/catalog/sei-rncf.pdf; ComponentLink2Description: DigiKey Link; ComponentLink2URL: https://www.digikey.com/en/products/detail/stackpole-electronics-inc/RNCF0603BKC1M00/6260857; Composition: Thin Film; Device Package: 0603 (1608 Metric); Features: Automotive AEC-Q200; Height - Seated (Max): 0.022" (0.55mm); LastUpdated: 2/9/2024 8:43:26 PM; Lifecycle Status: Active; Minimum Order: 1; Number of Terminations: 2; Operating Temperature: -55°C ~ 155°C; Package / Case: 0603 (1608 Metric); Packaging: TapeAndReel; PartId: 7445; Part Status: Active; Price: 0.05; Ratings: AEC-Q200; Resistance: 1 MOhms; Series: RNCF; Size / Dimension: 0.061" L x 0.031" W (1.55mm x 0.80mm); Supplier 1: DigiKey; Supplier Part Number 1: RNCF0603BKC1M00CT-ND; Supplier Device Package: 0603; Tolerance: ±0.1%
footprint RES 0603_1608
pins: 1, 2

## RNCF0603BKC1M00_1
designator R?, comment 1 MOhms
RES SMD 1M OHM 0.1% 1/10W 0603; Part Number: RNCF0603BKC1M00; Manufacturer: Stackpole Electronics Inc; Power (Watts): 0.1W, 1/10W; Temperature Coefficient: ±50ppm/°C; Value: 1 MOhms; ComponentLink1Description: Datasheet; ComponentLink1URL: https://www.seielect.com/catalog/sei-rncf.pdf; ComponentLink2Description: DigiKey Link; ComponentLink2URL: https://www.digikey.com/en/products/detail/stackpole-electronics-inc/RNCF0603BKC1M00/6260857; Composition: Thin Film; Device Package: 0603 (1608 Metric); Features: Automotive AEC-Q200; Height - Seated (Max): 0.022" (0.55mm); LastUpdated: 2/9/2024 8:43:26 PM; Lifecycle Status: Active; Minimum Order: 1; Number of Terminations: 2; Operating Temperature: -55°C ~ 155°C; Package / Case: 0603 (1608 Metric); Packaging: TapeAndReel; PartId: 7445; Part Status: Active; Price: 0.05; Ratings: AEC-Q200; Resistance: 1 MOhms; Series: RNCF; Size / Dimension: 0.061" L x 0.031" W (1.55mm x 0.80mm); Supplier 1: DigiKey; Supplier Part Number 1: RNCF0603BKC1M00CT-ND; Supplier Device Package: 0603; Tolerance: ±0.1%
footprint RES 0603_1608
pins: 1, 2

## RNCF0603BKC1M00_2
designator R?, comment 1 MOhms
RES SMD 1M OHM 0.1% 1/10W 0603; Part Number: RNCF0603BKC1M00; Manufacturer: Stackpole Electronics Inc; Power (Watts): 0.1W, 1/10W; Temperature Coefficient: ±50ppm/°C; Value: 1 MOhms; ComponentLink1Description: Datasheet; ComponentLink1URL: https://www.seielect.com/catalog/sei-rncf.pdf; ComponentLink2Description: DigiKey Link; ComponentLink2URL: https://www.digikey.com/en/products/detail/stackpole-electronics-inc/RNCF0603BKC1M00/6260857; Composition: Thin Film; Device Package: 0603 (1608 Metric); Features: Automotive AEC-Q200; Height - Seated (Max): 0.022" (0.55mm); LastUpdated: 2/9/2024 8:43:26 PM; Lifecycle Status: Active; Minimum Order: 1; Number of Terminations: 2; Operating Temperature: -55°C ~ 155°C; Package / Case: 0603 (1608 Metric); Packaging: TapeAndReel; PartId: 7445; Part Status: Active; Price: 0.05; Ratings: AEC-Q200; Resistance: 1 MOhms; Series: RNCF; Size / Dimension: 0.061" L x 0.031" W (1.55mm x 0.80mm); Supplier 1: DigiKey; Supplier Part Number 1: RNCF0603BKC1M00CT-ND; Supplier Device Package: 0603; Tolerance: ±0.1%
footprint RES 0603_1608
pins: 1, 2

## RNCF0603BKC1M00_3
designator R?, comment 1 MOhms
RES SMD 1M OHM 0.1% 1/10W 0603; Part Number: RNCF0603BKC1M00; Manufacturer: Stackpole Electronics Inc; Power (Watts): 0.1W, 1/10W; Temperature Coefficient: ±50ppm/°C; Value: 1 MOhms; ComponentLink1Description: Datasheet; ComponentLink1URL: https://www.seielect.com/catalog/sei-rncf.pdf; ComponentLink2Description: DigiKey Link; ComponentLink2URL: https://www.digikey.com/en/products/detail/stackpole-electronics-inc/RNCF0603BKC1M00/6260857; Composition: Thin Film; Device Package: 0603 (1608 Metric); Features: Automotive AEC-Q200; Height - Seated (Max): 0.022" (0.55mm); LastUpdated: 2/9/2024 8:43:26 PM; Lifecycle Status: Active; Minimum Order: 1; Number of Terminations: 2; Operating Temperature: -55°C ~ 155°C; Package / Case: 0603 (1608 Metric); Packaging: TapeAndReel; PartId: 7445; Part Status: Active; Price: 0.05; Ratings: AEC-Q200; Resistance: 1 MOhms; Series: RNCF; Size / Dimension: 0.061" L x 0.031" W (1.55mm x 0.80mm); Supplier 1: DigiKey; Supplier Part Number 1: RNCF0603BKC1M00CT-ND; Supplier Device Package: 0603; Tolerance: ±0.1%
footprint RES 0603_1608
pins: 1, 2

## RNCS0603BKE10K0
designator R?, comment 10 kOhms
RES 10K OHM 0.1% 1/16W 0603; Part Number: RNCS0603BKE10K0; Manufacturer: Stackpole Electronics Inc; Power (Watts): 0.063W, 1/16W; Temperature Coefficient: ±25ppm/°C; Value: 10 kOhms; ComponentLink1Description: Datasheet; ComponentLink1URL: https://www.seielect.com/catalog/sei-rncs_rnch.pdf; ComponentLink2Description: DigiKey Link; ComponentLink2URL: https://www.digikey.com/en/products/detail/stackpole-electronics-inc/RNCS0603BKE10K0/1708836; Composition: Thin Film; Device Package: 0603 (1608 Metric); Features: Anti-Corrosive, Automotive AEC-Q200, Moisture Resistant; Height - Seated (Max): 0.022" (0.55mm); LastUpdated: 2/9/2024 8:43:37 PM; Lifecycle Status: Active; Minimum Order: 1; Number of Terminations: 2; Operating Temperature: -55°C ~ 155°C; Package / Case: 0603 (1608 Metric); Packaging: TapeAndReel; PartId: 4838; Part Status: Active; Price: 0.06; Ratings: AEC-Q200; Resistance: 10 kOhms; Series: RNCS; Size / Dimension: 0.061" L x 0.031" W (1.55mm x 0.80mm); Supplier 1: DigiKey; Supplier Part Number 1: RNCS0603BKE10K0CT-ND; Supplier Device Package: 0603; Tolerance: ±0.1%
footprint RES 0603_1608
pins: 1, 2

## RNCS0603BKE10K0_1
designator R?, comment 10 kOhms
RES 10K OHM 0.1% 1/16W 0603; Part Number: RNCS0603BKE10K0; Manufacturer: Stackpole Electronics Inc; Power (Watts): 0.063W, 1/16W; Temperature Coefficient: ±25ppm/°C; Value: 10 kOhms; ComponentLink1Description: Datasheet; ComponentLink1URL: https://www.seielect.com/catalog/sei-rncs_rnch.pdf; ComponentLink2Description: DigiKey Link; ComponentLink2URL: https://www.digikey.com/en/products/detail/stackpole-electronics-inc/RNCS0603BKE10K0/1708836; Composition: Thin Film; Device Package: 0603 (1608 Metric); Features: Anti-Corrosive, Automotive AEC-Q200, Moisture Resistant; Height - Seated (Max): 0.022" (0.55mm); LastUpdated: 2/9/2024 8:43:37 PM; Lifecycle Status: Active; Minimum Order: 1; Number of Terminations: 2; Operating Temperature: -55°C ~ 155°C; Package / Case: 0603 (1608 Metric); Packaging: TapeAndReel; PartId: 4838; Part Status: Active; Price: 0.06; Ratings: AEC-Q200; Resistance: 10 kOhms; Series: RNCS; Size / Dimension: 0.061" L x 0.031" W (1.55mm x 0.80mm); Supplier 1: DigiKey; Supplier Part Number 1: RNCS0603BKE10K0CT-ND; Supplier Device Package: 0603; Tolerance: ±0.1%
footprint RES 0603_1608
pins: 1, 2

## RNCS0603BKE10K0_2
designator R?, comment 10 kOhms
RES 10K OHM 0.1% 1/16W 0603; Part Number: RNCS0603BKE10K0; Manufacturer: Stackpole Electronics Inc; Power (Watts): 0.063W, 1/16W; Temperature Coefficient: ±25ppm/°C; Value: 10 kOhms; ComponentLink1Description: Datasheet; ComponentLink1URL: https://www.seielect.com/catalog/sei-rncs_rnch.pdf; ComponentLink2Description: DigiKey Link; ComponentLink2URL: https://www.digikey.com/en/products/detail/stackpole-electronics-inc/RNCS0603BKE10K0/1708836; Composition: Thin Film; Device Package: 0603 (1608 Metric); Features: Anti-Corrosive, Automotive AEC-Q200, Moisture Resistant; Height - Seated (Max): 0.022" (0.55mm); LastUpdated: 2/9/2024 8:43:37 PM; Lifecycle Status: Active; Minimum Order: 1; Number of Terminations: 2; Operating Temperature: -55°C ~ 155°C; Package / Case: 0603 (1608 Metric); Packaging: TapeAndReel; PartId: 4838; Part Status: Active; Price: 0.06; Ratings: AEC-Q200; Resistance: 10 kOhms; Series: RNCS; Size / Dimension: 0.061" L x 0.031" W (1.55mm x 0.80mm); Supplier 1: DigiKey; Supplier Part Number 1: RNCS0603BKE10K0CT-ND; Supplier Device Package: 0603; Tolerance: ±0.1%
footprint RES 0603_1608
pins: 1, 2

## RNCS0603BKE10K0_3
designator R?, comment 10 kOhms
RES 10K OHM 0.1% 1/16W 0603; Part Number: RNCS0603BKE10K0; Manufacturer: Stackpole Electronics Inc; Power (Watts): 0.063W, 1/16W; Temperature Coefficient: ±25ppm/°C; Value: 10 kOhms; ComponentLink1Description: Datasheet; ComponentLink1URL: https://www.seielect.com/catalog/sei-rncs_rnch.pdf; ComponentLink2Description: DigiKey Link; ComponentLink2URL: https://www.digikey.com/en/products/detail/stackpole-electronics-inc/RNCS0603BKE10K0/1708836; Composition: Thin Film; Device Package: 0603 (1608 Metric); Features: Anti-Corrosive, Automotive AEC-Q200, Moisture Resistant; Height - Seated (Max): 0.022" (0.55mm); LastUpdated: 2/9/2024 8:43:37 PM; Lifecycle Status: Active; Minimum Order: 1; Number of Terminations: 2; Operating Temperature: -55°C ~ 155°C; Package / Case: 0603 (1608 Metric); Packaging: TapeAndReel; PartId: 4838; Part Status: Active; Price: 0.06; Ratings: AEC-Q200; Resistance: 10 kOhms; Series: RNCS; Size / Dimension: 0.061" L x 0.031" W (1.55mm x 0.80mm); Supplier 1: DigiKey; Supplier Part Number 1: RNCS0603BKE10K0CT-ND; Supplier Device Package: 0603; Tolerance: ±0.1%
footprint RES 0603_1608
pins: 1, 2

## RP73PF1E10KBTD
designator R?, comment 10 kOhms
RES 10K OHM 0.1% 1/10W 0402; Part Number: RP73PF1E10KBTD; Manufacturer: TE Connectivity Passive Product; Power (Watts): 0.1W, 1/10W; Temperature Coefficient: ±25ppm/°C; ComponentLink1Description: Datasheet; ComponentLink1URL: https://www.te.com/commerce/DocumentDelivery/DDEController?Action=srchrtrv&DocNm=1773272&DocType=DS&DocLang=English; ComponentLink2Description: DigiKey Link; ComponentLink2URL: https://www.digikey.com/en/products/detail/te-connectivity-passive-product/RP73PF1E10KBTD/8260957; Composition: Thin Film; Device Package: 0402 (1005 Metric); Height - Seated (Max): 0.014" (0.35mm); LastUpdated: 2/9/2024 8:30:24 PM; Lifecycle Status: Active; Minimum Order: 1; Number of Terminations: 2; Operating Temperature: -55°C ~ 155°C; Package / Case: 0402 (1005 Metric); Packaging: TapeAndReel; PartId: 2434; Part Status: Active; Price: 0.08; Resistance: 10 kOhms; Series: RP73, Holsworthy; Size / Dimension: 0.039" L x 0.020" W (1.00mm x 0.50mm); Supplier 1: DigiKey; Supplier Part Number 1: A127415CT-ND; Supplier Device Package: 0402; Tolerance: ±0.1%; Value: 10 kOhms
footprint RES 0402_1005
pins: 1, 2